# EAGLE library part LM22676-Q1 (library texas-instruments)
42V, 3A SIMPLE SWITCHER® Step-Down Voltage Regulator The LM22676 switching regulator provides all of the functions necessary to implement an efficient high voltage step-down (buck) regulator using a minimum of external components. This easy to use regulator incorporates a 42V N-channel MOSFET switch capable of providing up to 3A of load current. Excellent line and load regulation along with high efficiency (>90%) are featured. Voltage mode control offers short minimum on-time, allowing the widest ratio between input and output voltages. Internal loop compensation means that the user is free from the tedious task of calculating the loop compensation components. Fixed 5V output and adjustable output voltage options are available. A switching frequency of 500 kHz allows for small external components and good transient response. A precision enable input allows simplification of regulator control and system power sequencing. In shutdown mode the regulator draws only 25 µA (typ.). Built in soft-start (500µs, typ) saves external components. The LM22676 also has built in thermal shutdown, and current limiting to protect against accidental overloads.
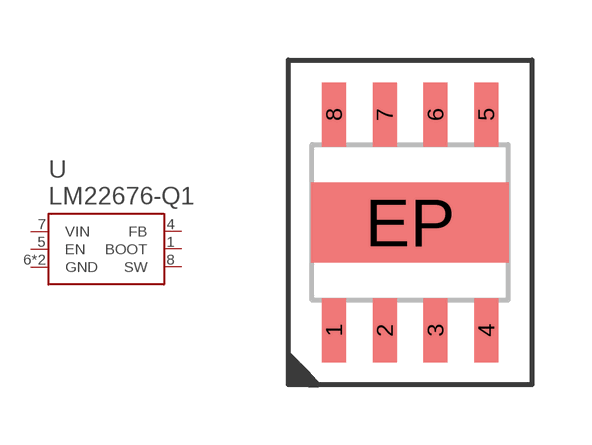
[diagram p3: symbol with the pads of PSOP-8; footprint PSOP-8]

Designator prefix U

## LM22676-Q1  [PSOP-8]
1  BOOT
4  FB
5  EN  in
6  GND  pwr
7  VIN  pwr
8  SW
EP  GND  pwr

## Footprint PSOP-8 (pad centres in mm)
smd 0.6 x 1.6: 1 -1.905,-2.7; 2 -0.635,-2.7; 3 0.635,-2.7; 4 1.905,-2.7; 5 1.905,2.7; 6 0.635,2.7; 7 -0.635,2.7; 8 -1.905,2.7
smd 4.95 x 2: EP 0,0